# Altium footprint library Generic_PcbLib.PcbLib: 25 footprints (part 1 of 2)
Each footprint in its own frame and in the unit in brackets; x right, y up, seen from the top. Pads: shape width x height; smd on the part's side, far side on the other; paste and mask are expansions set on the pad; w line width, h text height; cw(c..) or ccw(c..) is an arc to the next point about the centre after c.
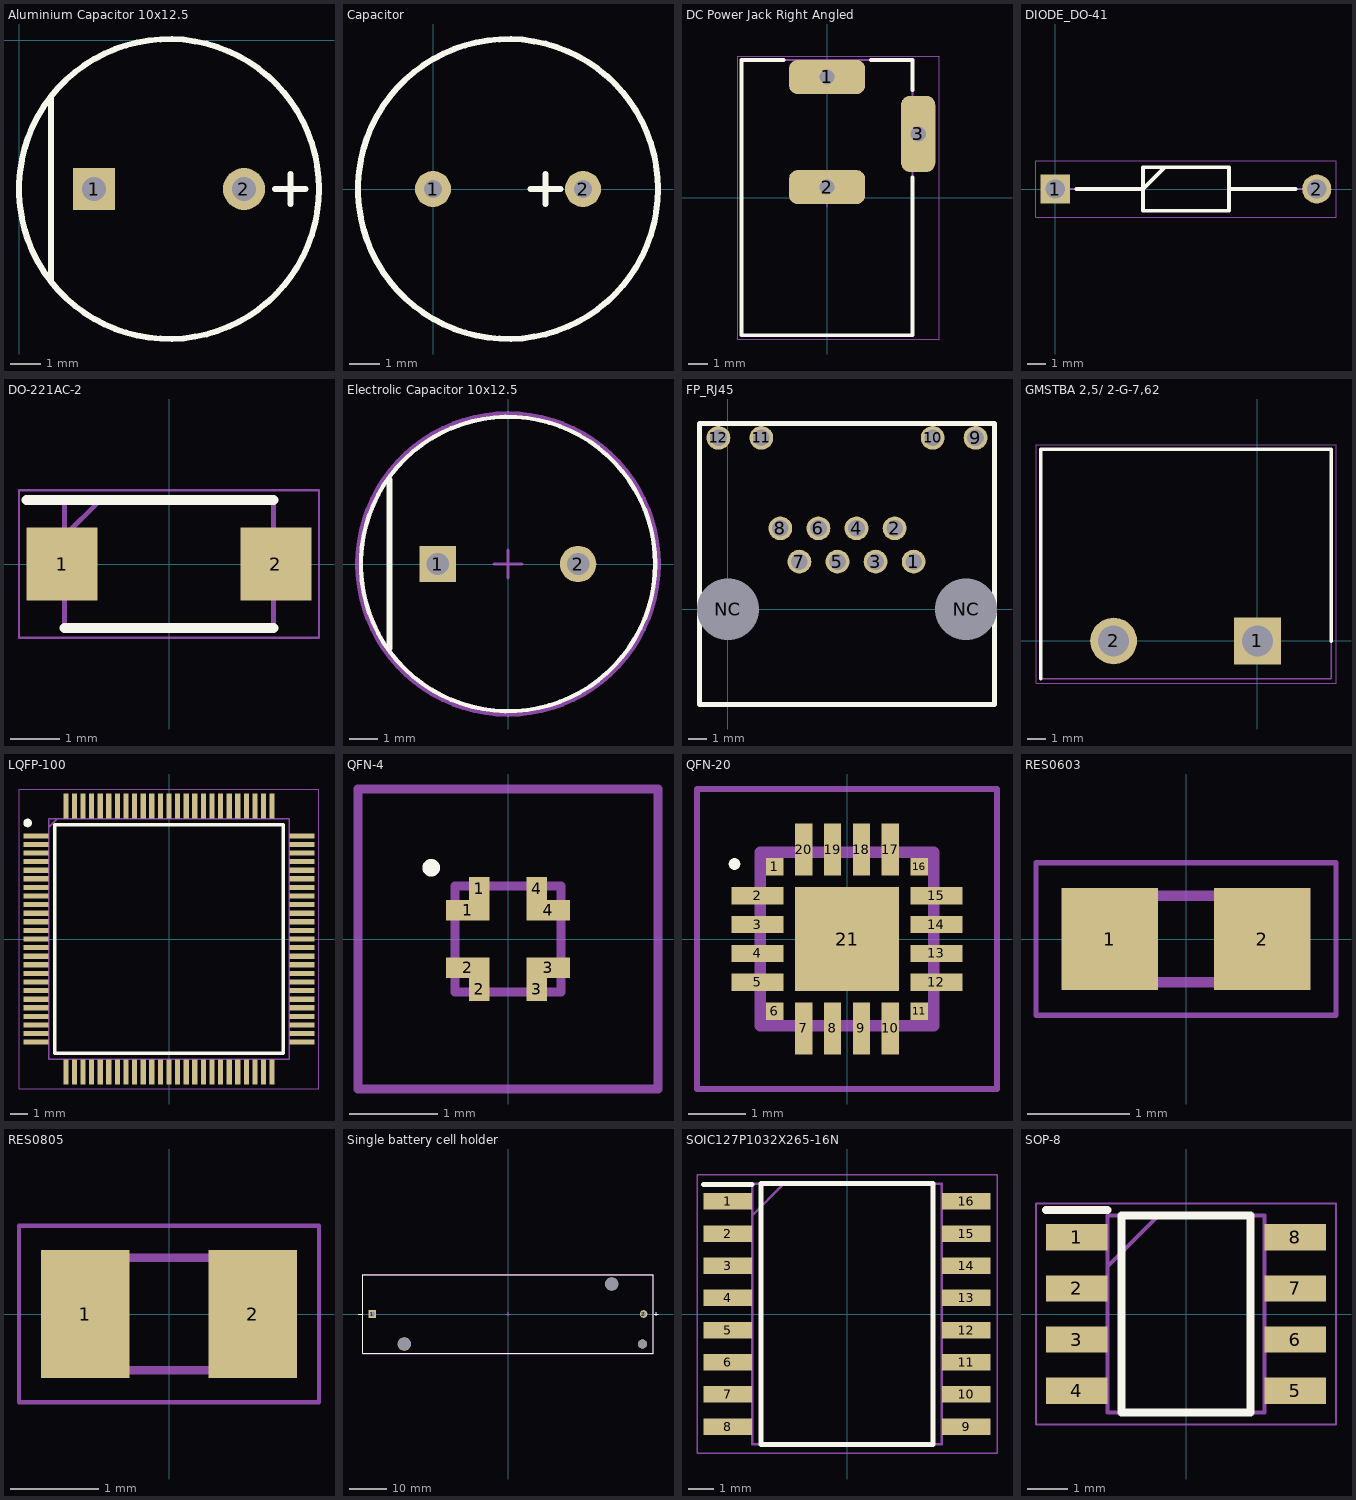
[diagram p0: the footprints below, top view; thin cyan lines are the x and y axes]

## Aluminium Capacitor 10x12.5 [mm]
pads (2):
  rect 1.4x1.4 hole 0.8: 1(2.493,-4.953)
  round 1.4 hole 0.8: 2(7.493,-4.953)
Top Overlay:
  circle w0.2: c4.993,-4.953 r5
  lines w0.2: 1.062,-7.953 1.062,-1.953 ; 8.529,-4.953 9.545,-4.953 ; 9.037,-5.461 9.037,-4.445
3D body "H-LEAD_D10_L12.5__GAS-ESCAPE-RUBBER_COATED-CASE_STRUCTURE.stp": height 12.5, standoff -19, extent -0.015,-9.957 9.982,0.034

## Capacitor [mm]
pads (2):
  round 1.2 hole 0.6: 1(0,0) 2(5,0)
Top Overlay:
  circle w0.2: c2.5,0 r5
  lines w0.2: 3.242,0 4.258,0 ; 3.75,-0.508 3.75,0.508

## DC Power Jack Right Angled [mm] "DC Power Jack Right Angled(6.4)"
height 10.7
pads (3):
  rrect50% 4x1.8 hole 0.8 square: 1(0,6.35) 2(0,0.55)
  rrect50% 1.8x4 hole 0.8 square: 3(4.8,3.35)
Top Overlay:
  lines w0.2: -2.3,7.25 -4.5,7.25 -4.5,-7.25 4.5,-7.25 4.5,1.05 ; 2.3,7.25 4.5,7.25 4.5,5.65
Top 3D Body:
  lines w0.1: -4.5,-7.25 -4.5,7.25 4.5,7.25 4.5,-7.25 -4.5,-7.25
Top Courtyard:
  lines w0.05: -0.5,0 0.5,0 ; 0,-0.5 0,0.5 ; -4.7,-7.45 5.9,-7.45 5.9,7.45 -4.7,7.45 -4.7,-7.45
Top Designator:
  text ".Designator" at -7.498,-0.5 h1.5
Top Component Outline:
  lines w0.1: -4.5,-7.25 4.5,-7.25 4.5,7.25 -4.5,7.25 -4.5,-7.25
3D body "694106301002.stp": height 10.75, standoff -3.75, extent -4.5,-7.25 5,7.25

## DIODE_DO-41 [mm]
pads (2):
  rect 1.575x1.575 hole 1.05: 1(0,0)
  round 1.575 hole 1.05: 2(14.1,0)
Top Overlay:
  lines w0.2: 1.138,0 4.732,0 5.912,1.18 ; 9.368,0 12.962,0 ; 4.732,-1.18 4.732,1.18 9.368,1.18 9.368,-1.18 4.732,-1.18
Mechanical 13:
  lines w0.1: 0,0 4.732,0 5.912,1.18 ; 9.368,0 14.1,0 ; 4.732,-1.18 4.732,1.18 9.367,1.18 9.367,-1.18 4.732,-1.18
Mechanical 15:
  lines w0.05: -1.038,-1.53 -1.038,1.53 15.137,1.53 15.137,-1.53 -1.038,-1.53
3D body "UF4007TA.stp": height 2.72, standoff -2.72, extent -0.432,-1.35 14.507,1.35

## DO-221AC-2 [mm] "Diode DO-221AC-2 package"
pads (2):
  rect 1.45x1.49 smd: 1(-2.175,0) 2(2.175,0)
Top Overlay:
  lines w0.2: -2.9,1.3 2.125,1.3 ; -2.125,-1.3 2.125,-1.3
Mechanical 13:
  lines w0.1: -2.125,0.575 -1.4,1.3 ; -2.125,-1.3 -2.125,1.3 2.125,1.3 2.125,-1.3 -2.125,-1.3
Mechanical 15:
  lines w0.05: -3.05,-1.5 -3.05,1.5 3.05,1.5 3.05,-1.5 -3.05,-1.5
3D body "VS-2EJH02-M3_6B.stp": height 1, standoff 0, extent -2.6,-1.3 2.6,1.3

## Electrolic Capacitor 10x12.5 [mm]
pads (2):
  rect 1.3x1.3 hole 0.8 paste-2539.97 mask+0: 1(-2.5,0)
  round 1.3 hole 0.8 paste-2539.97 mask+0: 2(2.5,0)
Top Overlay:
  circle w0.15: c0,0 r5.25
  lines w0.2: -4.225,-3 -4.225,3
Top 3D Body:
  circle w0.15: c0,0 r5.25
Top Assembly:
  text ".Designator" at 0,0.188 h1
Top Component Center:
  lines w0.1: -0.5,0 0.5,0 ; 0,-0.5 0,0.5
Board:
  lines w0.2: -5.35,0 ccw(c0,0) 5.35,0 ccw(c0,0) -5.35,0
3D body "Cap_Panasonic_EEUFM1C471E_eec.STEP": height 0.25, standoff 0, extent -5.35,-5.35 5.35,5.35

## FP_RJ45 [mil] "AMPHENOL RJHS-508X"
height 520
pads (14):
  round 50 hole 35: 1(390,100) 2(350,170) 3(310,100) 4(270,170) 5(230,100) 6(190,170) 7(150,100) 8(110,170) 9(520,360) 10(430,360) 11(70,360) 12(-20,360)
  round 110 hole 130 unplated: NC(0,0) NC(500,0)
Top Overlay:
  lines w10: -60,-200 560,-200 560,390 -60,390 -60,-200
3D body "RJ45_rjhs5384-amphenol.STEP": height 580.87, standoff -144.88, extent -78.88,-234.77 579,405

## GMSTBA 2,5/ 2-G-7,62 [mm] "Phoenix Xontact PCB header,"
pads (2):
  rect 2.475x2.475 hole 1.65: 1(0,0)
  round 2.475 hole 1.65: 2(-7.62,0)
Top Overlay:
  lines w0.2: -11.48,-2 -11.48,10.15 3.91,10.15 3.91,0
Mechanical 13:
  lines w0.1: -11.48,-2 3.91,-2 3.91,10.15 -11.48,10.15 -11.48,-2
Mechanical 15:
  lines w0.05: -11.73,-2.25 4.16,-2.25 4.16,10.4 -11.73,10.4 -11.73,-2.25
3D body "1766233.stp": height 8.9, standoff -3.2, extent -11.41,-1.922 3.83,10.08

## LQFP-100 [mm] "0.127mm pitch"
pads (100):
  rect 1.475x0.3 smd: 1(-7.738,6) 2(-7.738,5.5) 3(-7.738,5) 4(-7.738,4.5) 5(-7.738,4) 6(-7.738,3.5) 7(-7.738,3) 8(-7.738,2.5) 9(-7.738,2) 10(-7.738,1.5) 11(-7.738,1) 12(-7.738,0.5) 13(-7.738,0) 14(-7.738,-0.5) 15(-7.738,-1) 16(-7.738,-1.5) 17(-7.738,-2) 18(-7.738,-2.5) 19(-7.738,-3) 20(-7.738,-3.5) 21(-7.738,-4) 22(-7.738,-4.5) 23(-7.738,-5) 24(-7.738,-5.5) 25(-7.738,-6) 51(7.738,-6) 52(7.738,-5.5) 53(7.738,-5) 54(7.738,-4.5) 55(7.738,-4) 56(7.738,-3.5) 57(7.738,-3) 58(7.738,-2.5) 59(7.738,-2) 60(7.738,-1.5) 61(7.738,-1) 62(7.738,-0.5) 63(7.738,0) 64(7.738,0.5) 65(7.738,1) 66(7.738,1.5) 67(7.738,2) 68(7.738,2.5) 69(7.738,3) 70(7.738,3.5) 71(7.738,4) 72(7.738,4.5) 73(7.738,5) 74(7.738,5.5) 75(7.738,6)
  rect 0.3x1.475 smd: 26(-6,-7.738) 27(-5.5,-7.738) 28(-5,-7.738) 29(-4.5,-7.738) 30(-4,-7.738) 31(-3.5,-7.738) 32(-3,-7.738) 33(-2.5,-7.738) 34(-2,-7.738) 35(-1.5,-7.738) 36(-1,-7.738) 37(-0.5,-7.738) 38(0,-7.738) 39(0.5,-7.738) 40(1,-7.738) 41(1.5,-7.738) 42(2,-7.738) 43(2.5,-7.738) 44(3,-7.738) 45(3.5,-7.738) 46(4,-7.738) 47(4.5,-7.738) 48(5,-7.738) 49(5.5,-7.738) 50(6,-7.738) 76(6,7.738) 77(5.5,7.738) 78(5,7.738) 79(4.5,7.738) 80(4,7.738) 81(3.5,7.738) 82(3,7.738) 83(2.5,7.738) 84(2,7.738) 85(1.5,7.738) 86(1,7.738) 87(0.5,7.738) 88(0,7.738) 89(-0.5,7.738) 90(-1,7.738) 91(-1.5,7.738) 92(-2,7.738) 93(-2.5,7.738) 94(-3,7.738) 95(-3.5,7.738) 96(-4,7.738) 97(-4.5,7.738) 98(-5,7.738) 99(-5.5,7.738) 100(-6,7.738)
Top Overlay:
  circle w0.25: c-8.225,6.75 r0.125
  lines w0.2: -6.65,-6.65 -6.65,6.65 6.65,6.65 6.65,-6.65 -6.65,-6.65
Mechanical 13:
  lines w0.1: -7,6.5 -6.5,7 ; -7,-7 -7,7 7,7 7,-7 -7,-7
Mechanical 15:
  lines w0.05: -8.725,-8.725 -8.725,8.725 8.725,8.725 8.725,-8.725 -8.725,-8.725
3D body "F280039CPZRQ1.stp": height 1.5, standoff 0, extent -8.011,-8.011 8.011,8.011

## QFN-4 [mm] "UDFN (FT)"
pads (8):
  rect 0.49x0.23 smd: 1(-0.455,0.325) 2(-0.455,-0.325) 3(0.455,-0.325) 4(0.455,0.325)
  rect 0.23x0.26 smd: 1(-0.325,0.57) 2(-0.325,-0.57) 3(0.325,-0.57) 4(0.325,0.57)
Top Overlay:
  lines w0.1: -0.921,0.808 cw(c-0.871,0.808) -0.821,0.808 cw(c-0.871,0.808) -0.921,0.808
Mechanical 13:
  lines w0.1: -0.6,-0.6 0.6,-0.6 0.6,0.6 -0.6,0.6 -0.6,-0.6
Mechanical 15:
  lines w0.1: -1.7,-1.7 -1.7,1.7 1.7,1.7 1.7,-1.7 0.85,-1.7 -0.85,-1.7 -1.7,-1.7
3D body "MIC5019YFT-T5.stp": height 0.7, standoff 0, extent -0.6,-0.6 0.6,0.6

## QFN-20 [mm]
pads (21):
  rect 0.3x0.3 smd: 1(-1.25,1.25) 6(-1.25,-1.25) 11(1.25,-1.25) 16(1.25,1.25)
  rect 0.9x0.3 smd: 2(-1.55,0.75) 3(-1.55,0.25) 4(-1.55,-0.25) 5(-1.55,-0.75) 12(1.55,-0.75) 13(1.55,-0.25) 14(1.55,0.25) 15(1.55,0.75)
  rect 0.3x0.9 smd: 7(-0.75,-1.55) 8(-0.25,-1.55) 9(0.25,-1.55) 10(0.75,-1.55) 17(0.75,1.55) 18(0.25,1.55) 19(-0.25,1.55) 20(-0.75,1.55)
  rect 1.8x1.8 smd: 21(0,0)
Top Overlay:
  lines w0.1: -2,1.3 cw(c-1.95,1.3) -1.9,1.3 cw(c-1.95,1.3) -2,1.3
Mechanical 13:
  lines w0.2: -1.5,-1.5 1.5,-1.5 1.5,1.5 -1.5,1.5 -1.5,-1.5
Mechanical 15:
  lines w0.1: -2.6,-2.6 2.6,-2.6 2.6,2.6 -2.6,2.6 -2.6,-2.6
3D body "CP2102N-A02-GQFN20R.stp": height 0.75, standoff 0, extent -1.5,-1.5 1.5,1.5

## RES0603 [mm] "Resistor 0603 (1608 metric)"
pads (2):
  rect 0.95x1 smd: 1(-0.75,0) 2(0.75,0)
Mechanical 13:
  lines w0.1: -0.76,-0.425 0.76,-0.425 0.76,0.425 -0.76,0.425 -0.76,-0.425
Mechanical 15:
  lines w0.05: -1.475,-0.75 1.475,-0.75 1.475,0.75 -1.475,0.75 -1.475,-0.75
3D body "PHT0603Y1001FGW.stp": height 0.45, standoff 0, extent -0.76,-0.425 0.76,0.425

## RES0805 [mm] "Resistor 0805 (2012 metric)"
pads (2):
  rect 1x1.45 smd: 1(-0.95,0) 2(0.95,0)
Mechanical 13:
  lines w0.1: -1,-0.638 -1,0.638 1,0.638 1,-0.638 -1,-0.638
Mechanical 15:
  lines w0.05: -1.7,-1 -1.7,1 1.7,1 1.7,-1 -1.7,-1
3D body "0805W8F1004T5E.stp": height 0.65, standoff 0, extent -1,-0.637 1,0.637

## Single battery cell holder [mm] "18650 single battery cell holder"
pads (5):
  rect 2.02x2.02 hole 1.32 paste-2539.97 mask+0: 1(-36.11,0)
  round 2.02 hole 1.32 paste-2539.97 mask+0: 2(36.11,0)
  round 3.55 hole 3.55 unplated paste-2539.97 mask+0: ""(-27.6,-8) ""(27.6,8)
  round 2.39 hole 2.39 unplated paste-2539.97 mask+0: ""(35.8,-8)
Top Overlay:
  lines w0.2: -39.95,0 -38.95,0 ; 38.95,0 39.95,0 ; 39.45,-0.5 39.45,0.5 ; -38.65,-10.45 38.65,-10.45 38.65,10.45 -38.65,10.45 -38.65,-10.45
Top 3D Body:
  lines w0.2: -38.65,-10.45 38.65,-10.45 38.65,10.45 -38.65,10.45 -38.65,-10.45
Top Assembly:
  lines w0.2: -38.75,-10.55 38.75,-10.55 38.75,10.55 -38.75,10.55 -38.75,-10.55
  text ".Designator" at 0,-0.001 h1
Top Component Center:
  lines w0.1: -0.5,0 0.5,0 ; 0,-0.5 0,0.5
Board:
  lines w0.2: -38.75,-10.55 38.75,-10.55 38.75,10.55 -38.75,10.55 -38.75,-10.55
3D body "Conn_Keystone_1043P_eec.STEP": height 0.25, standoff 0, extent -38.75,-10.55 38.75,10.55

## SOIC127P1032X265-16N [mm]
pads (16):
  rect 1.925x0.65 smd: 1(-4.712,4.445) 2(-4.712,3.175) 3(-4.712,1.905) 4(-4.712,0.635) 5(-4.712,-0.635) 6(-4.712,-1.905) 7(-4.712,-3.175) 8(-4.712,-4.445) 9(4.712,-4.445) 10(4.712,-3.175) 11(4.712,-1.905) 12(4.712,-0.635) 13(4.712,0.635) 14(4.712,1.905) 15(4.712,3.175) 16(4.712,4.445)
Top Overlay:
  lines w0.2: -5.675,5.12 -3.75,5.12 ; -3.4,-5.15 -3.4,5.15 3.4,5.15 3.4,-5.15 -3.4,-5.15
Mechanical 13:
  lines w0.1: -3.75,3.88 -2.48,5.15 ; -3.75,-5.15 -3.75,5.15 3.75,5.15 3.75,-5.15 -3.75,-5.15
Mechanical 15:
  lines w0.05: -5.925,-5.5 -5.925,5.5 5.925,5.5 5.925,-5.5 -5.925,-5.5
3D body "IR2110STRPBF.stp": height 2.65, standoff 0, extent -5.162,-5.15 5.162,5.15

## SOP-8 [mm] "SOP/SOIC, 1.27mm, 8 pins"
pads (8):
  rect 1.525x0.65 smd: 1(-2.712,1.905) 2(-2.712,0.635) 3(-2.712,-0.635) 4(-2.712,-1.905) 5(2.712,-1.905) 6(2.712,-0.635) 7(2.712,0.635) 8(2.712,1.905)
Top Overlay:
  lines w0.2: -3.475,2.58 -1.95,2.58 ; -1.6,-2.45 -1.6,2.45 1.6,2.45 1.6,-2.45 -1.6,-2.45
Mechanical 13:
  lines w0.1: -1.95,1.18 -0.68,2.45 ; -1.95,-2.45 -1.95,2.45 1.95,2.45 1.95,-2.45 -1.95,-2.45
Mechanical 15:
  lines w0.05: -3.725,-2.75 -3.725,2.75 3.725,2.75 3.725,-2.75 -3.725,-2.75
3D body "NE555DR.stp": height 1.75, standoff 0, extent -3,-2.45 3,2.45